# Altium footprint library pcb_library.PcbLib: 4 footprints
Each footprint in its own frame and in the unit in brackets; x right, y up, seen from the top. Pads: shape width x height; smd on the part's side, far side on the other; paste and mask are expansions set on the pad; w line width, h text height; cw(c..) or ccw(c..) is an arc to the next point about the centre after c.
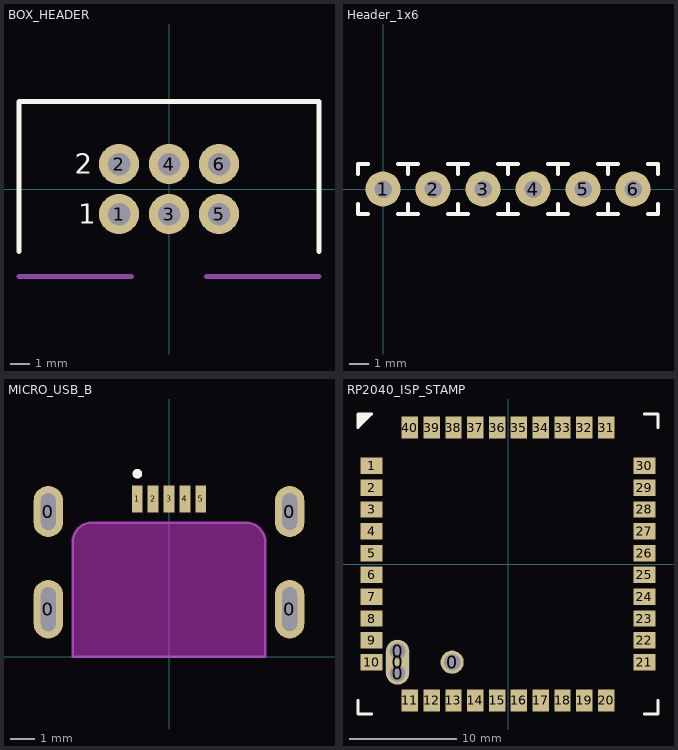
[diagram p0: the footprints below, top view; thin cyan lines are the x and y axes]

## BOX_HEADER [mil]
pads (6):
  round 80 hole 45 paste-100: 1(-100,-50) 2(-100,50) 3(0,-50) 4(0,50) 5(100,-50) 6(100,50)
Top Overlay:
  lines w10: -300,-125 -300,175 300,175 ; 300,175 300,-125 300,175
  text "1" at -181.66,-69.99 h40
  text "2" at -188.33,30.01 h40
Mechanical 1:
  lines w10: -300,-175 -75,-175 ; 75,-175 300,-175

## Header_1x6 [mil]
pads (6):
  round 70 hole 35: 1(0,0) 2(100,0) 3(200,0) 4(300,0) 5(400,0) 6(500,0)
Top Overlay:
  lines w7.5: -50,-30 -50,-50 -30,-50 ; -50,30 -50,50 -30,50 ; 30,-50 50,-50 ; 30,50 50,50 ; 70,-50 50,-50 ; 70,50 50,50 ; 130,-50 150,-50 ; 130,50 150,50 ; 170,-50 150,-50 ; 170,50 150,50 ; 230,-50 250,-50 ; 230,50 250,50 ; 270,-50 250,-50 ; 270,50 250,50 ; 330,-50 350,-50 ; 330,50 350,50 ; 370,-50 350,-50 ; 370,50 350,50 ; 430,-50 450,-50 ; 430,50 450,50 ; 470,-50 450,-50 ; 470,50 450,50 ; 530,-50 550,-50 550,-30 ; 530,50 550,50 550,30 ; 50,-50 50,-30 50,-50 ; 50,50 50,30 50,50 ; 150,-50 150,-30 150,-50 ; 150,50 150,30 150,50 ; 250,-50 250,-30 250,-50 ; 250,50 250,30 250,50 ; 350,-50 350,-30 350,-50 ; 350,50 350,30 350,50 ; 450,-50 450,-30 450,-50 ; 450,50 450,30 450,50

## MICRO_USB_B [mm]
pads (9):
  oval 1.2x2.4 hole 0.6 slot 1.8 at 90 deg paste-2.54: 0(-4.95,1.95) 0(4.95,1.95)
  oval 1.2x2.1 hole 0.6 slot 1.5 at 90 deg paste-2.54: 0(-4.95,5.95) 0(4.95,5.95)
  rect 0.445x1.105 smd paste-2.54: 1(-1.3,6.47) 2(-0.65,6.47) 3(0,6.47) 4(0.65,6.47) 5(1.3,6.47)
Top Overlay:
  circle w0.2: c-1.3,7.5 r0.1
Keep-Out Layer:
  board cut-out: -3.95,0 -3.95,4.7 -3.95,4.779 -3.919,4.933 -3.859,5.079 -3.771,5.21 -3.66,5.321 -3.529,5.409 -3.383,5.469 -3.229,5.5 -3.15,5.5 -3.152,5.5 3.152,5.5 3.15,5.5 3.229,5.5 3.383,5.469 3.529,5.409 3.66,5.321 3.771,5.21 3.859,5.079 3.919,4.933 3.95,4.779 3.95,4.7 3.95,0
Mechanical 1:
  lines w0.1: -3.152,5.5 3.152,5.5 ; -3.15,5.5 ccw(c-3.15,4.7) -3.95,4.7 -3.95,0 3.95,0 3.95,4.7 ccw(c3.15,4.7) 3.15,5.5

## RP2040_ISP_STAMP [mil]
pads (45):
  round 85 hole 60 paste-100: 0(-405,-400) 0(-405,-320) 0(-205,-360)
  oval 85x160 smd paste-100: 0(-405,-360)
  oval 85x160 smd far side paste-100: 0(-405,-360)
  rect 80x60 smd paste-100: 1(-500,360) 2(-500,280) 3(-500,200) 4(-500,120) 5(-500,40) 6(-500,-40) 7(-500,-120) 8(-500,-200) 9(-500,-280) 10(-500,-360) 21(500,-360) 22(500,-280) 23(500,-200) 24(500,-120) 25(500,-40) 26(500,40) 27(500,120) 28(500,200) 29(500,280) 30(500,360)
  rect 60x80 smd paste-100: 11(-360,-500) 12(-280,-500) 13(-200,-500) 14(-120,-500) 15(-40,-500) 16(40,-500) 17(120,-500) 18(200,-500) 19(280,-500) 20(360,-500) 31(360,500) 32(280,500) 33(200,500) 34(120,500) 35(40,500) 36(-40,500) 37(-120,500) 38(-200,500) 39(-280,500) 40(-360,500)
Top Overlay:
  region: -550,550 -500,550 -550,500
  lines w10: -550,-500 -550,-550 -500,-550 ; 500,-550 550,-550 550,-500 ; 500,550 550,550 550,500 ; -550,500 -550,550 -500,550 -550,500
3D body "rp2040_isp_stamp.step": height 147, standoff -0.86, extent -525,-525 525,525